# EAGLE library part 68713514522 (library Eagle_FPC_CONNECTOR_AND_FFC_CAB (rev18c))
WR-FPC 0.5mm SMT ZIF Horizontal Bottom Contact, 35 Pins=>Code : Con_FPC_ZIF_0.50_68713514522 <http://katalog.we-online.de/media/images/eican/Con_FPC_ZIF_0.50_6871xx14522_pf2.jpg> Details see: http://katalog.we-online.de/en/em/687_1xx_145_22 Created 2014-07-09, Karrer Zheng 2014 (C) Würth Elektronik
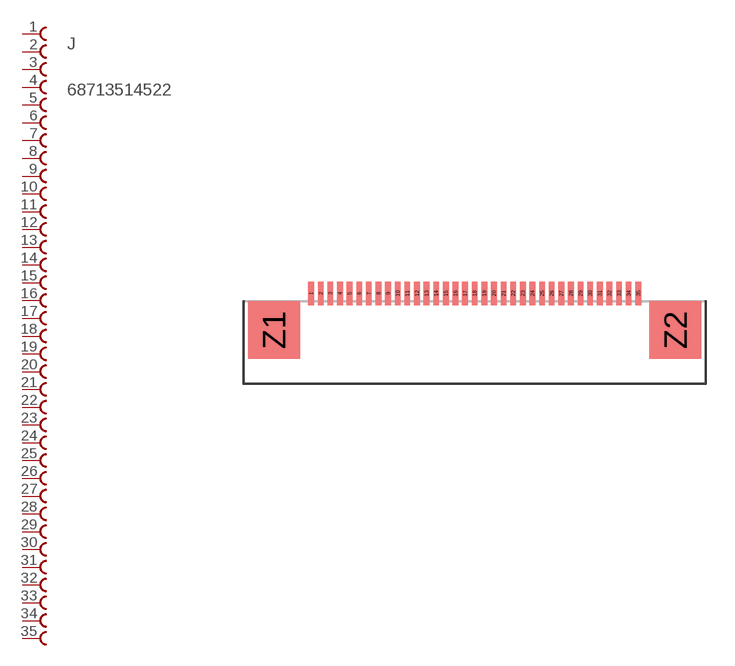
[diagram p66: symbol with the pads of 68713514522; footprint 68713514522]

Designator prefix J

## 68713514522  [68713514522]
1  1  pas
2  2  pas
3  3  pas
4  4  pas
5  5  pas
6  6  pas
7  7  pas
8  8  pas
9  9  pas
10  10  pas
11  11  pas
12  12  pas
13  13  pas
14  14  pas
15  15  pas
16  16  pas
17  17  pas
18  18  pas
19  19  pas
20  20  pas
21  21  pas
22  22  pas
23  23  pas
24  24  pas
25  25  pas
26  26  pas
27  27  pas
28  28  pas
29  29  pas
30  30  pas
31  31  pas
32  32  pas
33  33  pas
34  34  pas
35  35  pas

## Footprint 68713514522 (pad centres in mm)
WR-FPC 0.5mm SMT ZIF Horizontal Bottom Contact, 35 Pins
smd 0.3 x 1.2: 1 -8.5,1.9; 2 -8,1.9; 3 -7.5,1.9; 4 -7,1.9; 5 -6.5,1.9; 6 -6,1.9; 7 -5.5,1.9; 8 -5,1.9; 9 -4.5,1.9; 10 -4,1.9; 11 -3.5,1.9; 12 -3,1.9; 13 -2.5,1.9; 14 -2,1.9; 15 -1.5,1.9; 16 -1,1.9; 17 -0.5,1.9; 18 0,1.9; 19 0.5,1.9; 20 1,1.9; 21 1.5,1.9; 22 2,1.9; 23 2.5,1.9; 24 3,1.9; 25 3.5,1.9; 26 4,1.9; 27 4.5,1.9; 28 5,1.9; 29 5.5,1.9; 30 6,1.9; 31 6.5,1.9; 32 7,1.9; 33 7.5,1.9; 34 8,1.9; 35 8.5,1.9
smd 2.7 x 3: Z1 -10.43,0; Z2 10.43,0